# Altium schematic symbol library symbols.SchLib: 4 symbols
Pins are listed as number, name and electrical type; pins without a type are passive.

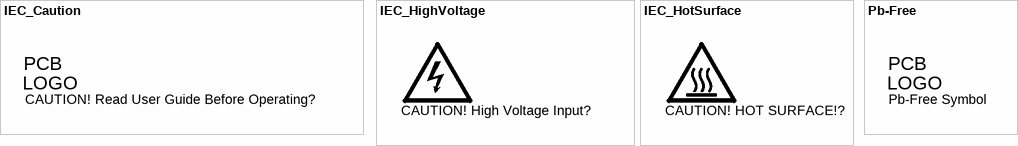
[diagram p0: symbols IEC_Caution to Pb-Free]

## IEC_Caution
designator CAUTION! Read User Guide Before Operating?, comment CAUTION.  READ USER GUIDE BEFORE USE  (value not drawn)  (no BOM)
IEC 61010-1 Caution Warning; SymbolCreator: a0412235; SymbolVersion: 2011-08-22; Published: 2009-03-03; Publisher: Texas Instruments; LatestRevisionDate: 2016-02-04
footprint IEC_Caution_Large
footprint IEC_Caution_Medium
footprint IEC_Caution_Small
text: PCB; LOGO

## IEC_HighVoltage
designator CAUTION! High Voltage Input?, comment DANGER HIGH VOLTAGE  (value not drawn)  (no BOM)
IEC 61010-1 High Voltage Warning; SymbolCreator: a0412235; SymbolVersion: 2011-08-22; Published: 2009-03-03; Publisher: Texas Instruments; LatestRevisionDate: 2016-02-04
footprint IEC_HighVoltage_Large
footprint IEC_HighVoltage_Medium
footprint IEC_HighVoltage_Small

## IEC_HotSurface
designator CAUTION! HOT SURFACE!?, comment CAUTION HOT SURFACE  (value not drawn)  (no BOM)
IEC 61010-1 Hot Surface Warning; SymbolCreator: a0412235; SymbolVersion: 2011-08-22; Published: 2009-03-03; Publisher: Texas Instruments; LatestRevisionDate: 2016-02-04
footprint IEC_HotSurface_Large
footprint IEC_HotSurface_Medium
footprint IEC_HotSurface_Small

## Pb-Free
designator Logo?, comment Pb-Free Symbol  (no BOM)
SymbolCreator: a0412235; SymbolVersion: 2011-08-22; Published: 2009-03-03; Publisher: Texas Instruments; LatestRevisionDate: 2014-08-05
footprint Pb-Free_Overlay_Medium
footprint Pb-Free_Overlay_Small
text: PCB; LOGO